# EAGLE library part VSK-S3-5U (library CharlieCreations)
Universal AC to DC adapter, 5V Output, Manufacturer: CUI Inc
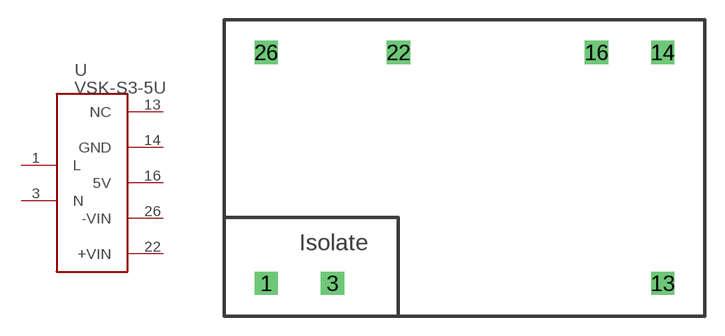
[diagram p18: symbol with the pads of VSK-S3-DCAC; footprint VSK-S3-DCAC]

Designator prefix -

## VSK-S3-5U1  [VSK-S3-DCAC]
1  L
3  N
13  NC  nc
14  GND
16  5V
22  +VIN
26  -VIN

## Footprint VSK-S3-DCAC (pad centres in mm)
drill 1.2 square: 1 -15.24,-7.62; 3 -10.16,-7.62; 13 15.24,-7.62; 14 15.24,10.16; 16 10.16,10.16; 22 -5.08,10.16; 26 -15.24,10.16